# Altium footprint library Footprints.PcbLib: 34 footprints (part 2 of 3)
Each footprint in its own frame and in the unit in brackets; x right, y up, seen from the top. Pads: shape width x height; smd on the part's side, far side on the other; paste and mask are expansions set on the pad; w line width, h text height; cw(c..) or ccw(c..) is an arc to the next point about the centre after c.
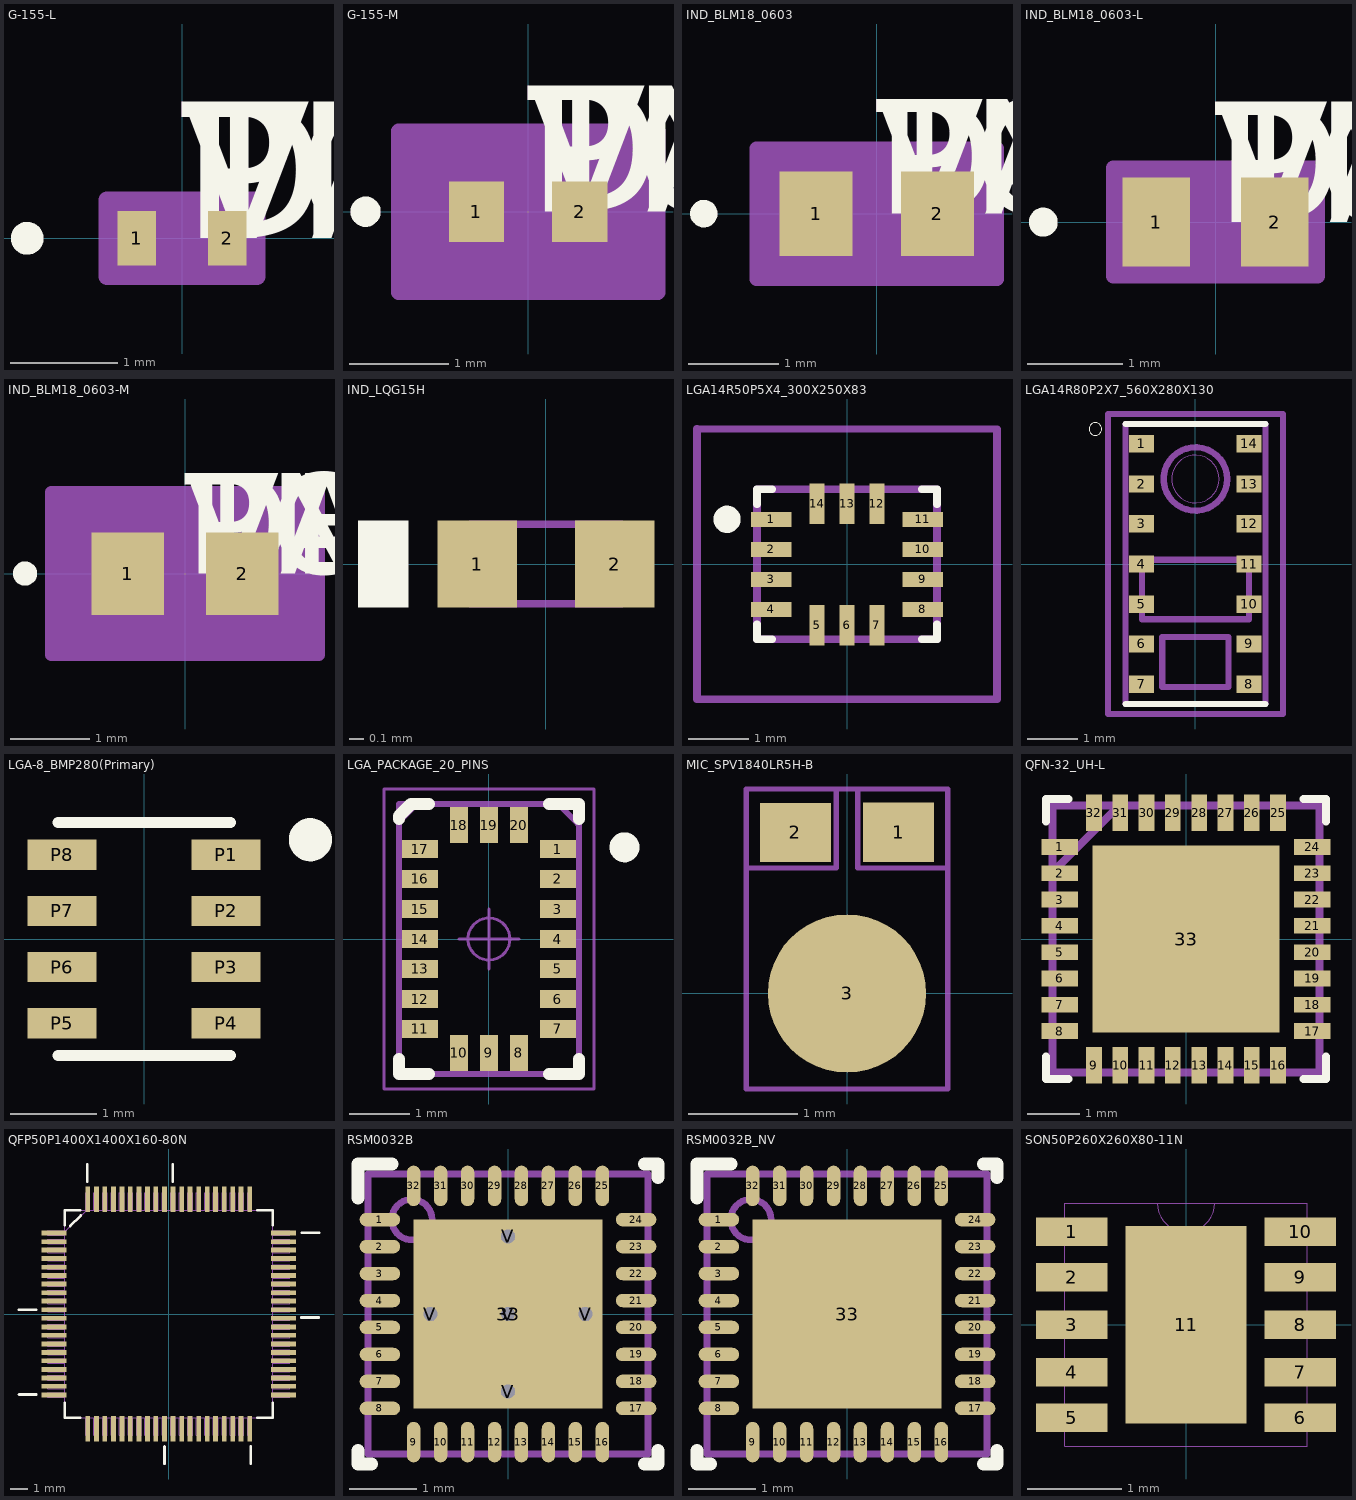
[diagram p1: the footprints below, top view; thin cyan lines are the x and y axes]

## G-155-L [mil]
pads (2):
  rect 14x20 smd: 1(-16.5,0) 2(16.5,0)
Top Overlay:
  circle w6: c-56.5,0 r3
  text "TOL" at 0,0 h50
  text "VAL" at 0,0 h50
  text "DEV" at 0,0 h50
  text "PN" at 0,0 h50
Mechanical 13:
  circle w0: c-11.5,0 r3
  text "RefDes2" at 0,0 h50
Mechanical 15:
  region: 27.5,-14 -27.5,-14 -27.5,14 27.5,14
  lines w6: -27.5,-14 27.5,-14 27.5,14 -27.5,14 -27.5,-14
3D body: height 10, standoff 0, extent 0,0 10,10

## G-155-M [mil]
pads (2):
  rect 22x24 smd: 1(-20.5,0) 2(20.5,0)
Top Overlay:
  circle w6: c-64.5,0 r3
  text "TOL" at 0,0 h50
  text "VAL" at 0,0 h50
  text "DEV" at 0,0 h50
  text "PN" at 0,0 h50
Mechanical 13:
  circle w0: c-15.5,0 r3
  text "RefDes2" at 0,0 h50
Mechanical 15:
  region: 51.5,-32 -51.5,-32 -51.5,32 51.5,32
  lines w6: -51.5,-32 51.5,-32 51.5,32 -51.5,32 -51.5,-32
3D body: height 10, standoff 0, extent 0,0 10,10

## IND_BLM18_0603 [mil]
pads (2):
  rect 32x37 smd: 1(-26.5,0) 2(26.5,0)
Top Overlay:
  circle w6: c-75.5,0 r3
  text "TOL" at 0,0 h50
  text "VAL" at 0,0 h50
  text "DEV" at 0,0 h50
  text "PN" at 0,0 h50
Mechanical 13:
  circle w0: c-21.5,0 r3
  text "RefDes2" at 0,0 h50
Mechanical 15:
  region: 52.5,-28.5 -52.5,-28.5 -52.5,28.5 52.5,28.5
  lines w6: -52.5,-28.5 52.5,-28.5 52.5,28.5 -52.5,28.5 -52.5,-28.5
3D body: height 10, standoff 0, extent 0,0 10,10

## IND_BLM18_0603-L [mil]
pads (2):
  rect 28x37 smd: 1(-24.5,0) 2(24.5,0)
Top Overlay:
  circle w6: c-71.5,0 r3
  text "PN" at 0,0 h50
  text "DEV" at 0,0 h50
  text "VAL" at 0,0 h50
  text "TOL" at 0,0 h50
Mechanical 13:
  circle w0: c-19.5,0 r3
  text "RefDes2" at 0,0 h50
Mechanical 15:
  region: 42.5,-22.5 -42.5,-22.5 -42.5,22.5 42.5,22.5
  lines w6: -42.5,-22.5 -42.5,22.5 42.5,22.5 42.5,-22.5 -42.5,-22.5
3D body: height 10, standoff 0, extent 0,0 10,10

## IND_BLM18_0603-M [mil]
pads (2):
  rect 36x41 smd: 1(-28.5,0) 2(28.5,0)
Top Overlay:
  circle w6: c-79.5,0 r3
  text "PN" at 0,0 h50
  text "DEV" at 0,0 h50
  text "VAL" at 0,0 h50
  text "TOL" at 0,0 h50
Mechanical 13:
  circle w0: c-23.5,0 r3
  text "RefDes2" at 0,0 h50
Mechanical 15:
  region: 66.5,-40.5 -66.5,-40.5 -66.5,40.5 66.5,40.5
  lines w6: -66.5,-40.5 -66.5,40.5 66.5,40.5 66.5,-40.5 -66.5,-40.5
3D body: height 10, standoff 0, extent 0,0 10,10

## IND_LQG15H [mm] "MuRata"
height 0.55
pads (2):
  rect 0.55x0.6 smd: 1(-0.475,0) 2(0.475,0)
Top Overlay:
  rectangle: -1.3,-0.3 -0.95,0.3
Mechanical 5:
  rectangle: -0.7,-0.275 -0.525,0.275
  lines w0.05: -0.525,-0.275 0.525,-0.275 0.525,0.275 -0.525,0.275 -0.525,-0.275
  text ".Designator" at 0.254,0.127 h0.25
3D body: height 0.55, standoff 0, extent -0.524,-0.274 -0.276,0.274
3D body: height 0.54, standoff 0, extent -0.274,-0.274 0.274,0.274
3D body: height 0.55, standoff 0, extent 0.276,-0.274 0.524,0.274
3D body: height 0.55, standoff 0.54, extent -0.274,-0.274 -0.001,0.274

## LGA14R50P5X4_300X250X83 [mm]
pads (14):
  rect 0.675x0.25 smd paste-25.4 mask-25.4: 1(-1.262,0.75) 2(-1.262,0.25) 3(-1.262,-0.25) 4(-1.262,-0.75) 8(1.262,-0.75) 9(1.262,-0.25) 10(1.262,0.25) 11(1.262,0.75)
  rect 0.25x0.675 smd paste-25.4 mask-25.4: 5(-0.5,-1.012) 6(0,-1.012) 7(0.5,-1.012) 12(0.5,1.012) 13(0,1.012) 14(-0.5,1.012)
Top Overlay:
  circle w0.254: c-2,0.75 r0.1
  lines w0.127: -1.5,-1 -1.5,-1.25 -1.25,-1.25 ; -1.5,1 -1.5,1.25 -1.25,1.25 ; 1.25,-1.25 1.5,-1.25 1.5,-1 ; 1.25,1.25 1.5,1.25 1.5,1
Top Paste:
  region: -0.375,0.675 -0.375,1.35 -0.625,1.35 -0.625,0.675
  region: 0.125,0.675 0.125,1.35 -0.125,1.35 -0.125,0.675
  region: 0.625,0.675 0.625,1.35 0.375,1.35 0.375,0.675
  region: 0.925,0.625 1.6,0.625 1.6,0.875 0.925,0.875
  region: 0.925,0.125 1.6,0.125 1.6,0.375 0.925,0.375
  region: 0.925,-0.375 1.6,-0.375 1.6,-0.125 0.925,-0.125
  region: 0.925,-0.875 1.6,-0.875 1.6,-0.625 0.925,-0.625
  region: 0.375,-0.675 0.375,-1.35 0.625,-1.35 0.625,-0.675
  region: -0.125,-0.675 -0.125,-1.35 0.125,-1.35 0.125,-0.675
  region: -0.625,-0.675 -0.625,-1.35 -0.375,-1.35 -0.375,-0.675
  region: -1.6,-0.875 -0.925,-0.875 -0.925,-0.625 -1.6,-0.625
  region: -1.6,-0.375 -0.925,-0.375 -0.925,-0.125 -1.6,-0.125
  region: -1.6,0.125 -0.925,0.125 -0.925,0.375 -1.6,0.375
  region: -1.6,0.625 -0.925,0.625 -0.925,0.875 -1.6,0.875
Top Solder:
  region: -0.275,0.575 -0.275,1.45 -0.725,1.45 -0.725,0.575
  region: 0.225,0.575 0.225,1.45 -0.225,1.45 -0.225,0.575
  region: 0.725,0.575 0.725,1.45 0.275,1.45 0.275,0.575
  region: 0.825,0.525 1.7,0.525 1.7,0.975 0.825,0.975
  region: 0.825,0.025 1.7,0.025 1.7,0.475 0.825,0.475
  region: 0.825,-0.475 1.7,-0.475 1.7,-0.025 0.825,-0.025
  region: 0.825,-0.975 1.7,-0.975 1.7,-0.525 0.825,-0.525
  region: 0.275,-0.575 0.275,-1.45 0.725,-1.45 0.725,-0.575
  region: -0.225,-0.575 -0.225,-1.45 0.225,-1.45 0.225,-0.575
  region: -0.725,-0.575 -0.725,-1.45 -0.275,-1.45 -0.275,-0.575
  region: -1.7,-0.975 -0.825,-0.975 -0.825,-0.525 -1.7,-0.525
  region: -1.7,-0.475 -0.825,-0.475 -0.825,-0.025 -1.7,-0.025
  region: -1.7,0.025 -0.825,0.025 -0.825,0.475 -1.7,0.475
  region: -1.7,0.525 -0.825,0.525 -0.825,0.975 -1.7,0.975
Mechanical 1:
  lines w0.127: -2.5,2.25 -2.5,-2.25 2.5,-2.25 2.5,2.25 -2.5,2.26 ; -1.5,-1.25 -1.5,1.25 1.5,1.25 1.5,-1.25 -1.5,-1.25

## LGA14R80P2X7_560X280X130 [mm]
pads (14):
  rect 0.5x0.35 smd paste-25.4 mask-25.4: 1(-1.075,2.4) 2(-1.075,1.6) 3(-1.075,0.8) 4(-1.075,0) 5(-1.075,-0.8) 6(-1.075,-1.6) 7(-1.075,-2.4) 8(1.075,-2.4) 9(1.075,-1.6) 10(1.075,-0.8) 11(1.075,0) 12(1.075,0.8) 13(1.075,1.6) 14(1.075,2.4)
Top Overlay:
  circle w0: c-2,2.7 r0.127
  lines w0.127: -1.4,-2.8 1.4,-2.8 ; -1.4,2.8 1.4,2.8
Top Paste:
  region: 0.825,2.225 1.325,2.225 1.325,2.575 0.825,2.575
  region: 0.825,1.425 1.325,1.425 1.325,1.775 0.825,1.775
  region: 0.825,0.625 1.325,0.625 1.325,0.975 0.825,0.975
  region: 0.825,-0.175 1.325,-0.175 1.325,0.175 0.825,0.175
  region: 0.825,-0.975 1.325,-0.975 1.325,-0.625 0.825,-0.625
  region: 0.825,-1.775 1.325,-1.775 1.325,-1.425 0.825,-1.425
  region: 0.825,-2.575 1.325,-2.575 1.325,-2.225 0.825,-2.225
  region: -1.325,2.225 -0.825,2.225 -0.825,2.575 -1.325,2.575
  region: -1.325,1.425 -0.825,1.425 -0.825,1.775 -1.325,1.775
  region: -1.325,0.625 -0.825,0.625 -0.825,0.975 -1.325,0.975
  region: -1.325,-0.175 -0.825,-0.175 -0.825,0.175 -1.325,0.175
  region: -1.325,-0.975 -0.825,-0.975 -0.825,-0.625 -1.325,-0.625
  region: -1.325,-1.775 -0.825,-1.775 -0.825,-1.425 -1.325,-1.425
  region: -1.325,-2.575 -0.825,-2.575 -0.825,-2.225 -1.325,-2.225
Top Solder:
  region: 0.725,2.125 1.425,2.125 1.425,2.675 0.725,2.675
  region: 0.725,1.325 1.425,1.325 1.425,1.875 0.725,1.875
  region: 0.725,0.525 1.425,0.525 1.425,1.075 0.725,1.075
  region: 0.725,-0.275 1.425,-0.275 1.425,0.275 0.725,0.275
  region: 0.725,-1.075 1.425,-1.075 1.425,-0.525 0.725,-0.525
  region: 0.725,-1.875 1.425,-1.875 1.425,-1.325 0.725,-1.325
  region: 0.725,-2.675 1.425,-2.675 1.425,-2.125 0.725,-2.125
  region: -1.425,2.125 -0.725,2.125 -0.725,2.675 -1.425,2.675
  region: -1.425,1.325 -0.725,1.325 -0.725,1.875 -1.425,1.875
  region: -1.425,0.525 -0.725,0.525 -0.725,1.075 -1.425,1.075
  region: -1.425,-0.275 -0.725,-0.275 -0.725,0.275 -1.425,0.275
  region: -1.425,-1.075 -0.725,-1.075 -0.725,-0.525 -1.425,-0.525
  region: -1.425,-1.875 -0.725,-1.875 -0.725,-1.325 -1.425,-1.325
  region: -1.425,-2.675 -0.725,-2.675 -0.725,-2.125 -1.425,-2.125
Mechanical 1:
  circle w0: c0,1.7 r0.475
  circle w0.127: c0,1.7 r0.635
  lines w0.127: -1.4,-2.8 -1.4,2.8 ; 1.4,-2.8 1.4,2.8 ; -1.75,-3 1.75,-3 1.75,3 -1.75,3 -1.75,-3 ; -1.07,-1.105 1.07,-1.105 1.07,0.085 -1.07,0.085 -1.07,-1.105 ; -0.66,-2.46 0.66,-2.46 0.66,-1.46 -0.66,-1.46 -0.66,-2.46

## LGA-8_BMP280(Primary) [mm]
pads (8):
  rect 0.8x0.35 smd paste-25.4 mask-25.4: P1(0.95,0.975) P2(0.95,0.325) P3(0.95,-0.325) P4(0.95,-0.975) P5(-0.95,-0.975) P6(-0.95,-0.325) P7(-0.95,0.325) P8(-0.95,0.975)
Top Overlay:
  circle w0.3: c1.925,1.15 r0.1
  lines w0.127: -1,-1.35 1,-1.35 ; -1,1.35 1,1.35
Top Paste:
  region: -1.35,-1.15 -0.55,-1.15 -0.55,-0.8 -1.35,-0.8
  region: 0.55,-1.15 1.35,-1.15 1.35,-0.8 0.55,-0.8
  region: 0.55,0.8 1.35,0.8 1.35,1.15 0.55,1.15
  region: -1.35,0.8 -0.55,0.8 -0.55,1.15 -1.35,1.15
  region: -1.35,-0.5 -0.55,-0.5 -0.55,-0.15 -1.35,-0.15
  region: 0.55,-0.5 1.35,-0.5 1.35,-0.15 0.55,-0.15
  region: -1.35,0.15 -0.55,0.15 -0.55,0.5 -1.35,0.5
  region: 0.55,0.15 1.35,0.15 1.35,0.5 0.55,0.5
Top Solder:
  region: -1.45,-1.25 -0.45,-1.25 -0.45,-0.7 -1.45,-0.7
  region: 0.45,-1.25 1.45,-1.25 1.45,-0.7 0.45,-0.7
  region: 0.45,0.7 1.45,0.7 1.45,1.25 0.45,1.25
  region: -1.45,0.7 -0.45,0.7 -0.45,1.25 -1.45,1.25
  region: -1.45,-0.6 -0.45,-0.6 -0.45,-0.05 -1.45,-0.05
  region: 0.45,-0.6 1.45,-0.6 1.45,-0.05 0.45,-0.05
  region: -1.45,0.05 -0.45,0.05 -0.45,0.6 -1.45,0.6
  region: 0.45,0.05 1.45,0.05 1.45,0.6 0.45,0.6

## LGA_PACKAGE_20_PINS [mm]
pads (20):
  rect 0.6x0.3 smd: 1(1.15,1.5) 2(1.15,1) 3(1.15,0.5) 4(1.15,0) 5(1.15,-0.5) 6(1.15,-1) 7(1.15,-1.5) 11(-1.15,-1.5) 12(-1.15,-1) 13(-1.15,-0.5) 14(-1.15,0) 15(-1.15,0.5) 16(-1.15,1) 17(-1.15,1.5)
  rect 0.3x0.6 smd: 8(0.5,-1.9) 9(0,-1.9) 10(-0.5,-1.9) 18(-0.5,1.9) 19(0,1.9) 20(0.5,1.9)
Top Overlay:
  circle w0.25: c2.26,1.529 r0.125
  lines w0.2: -1.5,-2 -1.5,-2.25 -1,-2.25 ; -1.5,2 -1.5,2.05 -1.3,2.25 -1,2.25 ; 1,-2.25 1.5,-2.25 1.5,-2 ; 1,2.25 1.5,2.25 1.5,2
Mechanical 15:
  lines w0.1: -1.5,1.95 -1.2,2.25 ; -1.5,2.15 -1.4,2.25 ; 1.179,2.224 1.479,1.924 ; -1.5,-2.25 -1.5,2.25 1.5,2.25 1.5,-2.25 -1.5,-2.25
Mechanical 20:
  circle w0.05: c0,0 r0.35
  lines w0.05: -0.5,0 0.5,0 ; 0,-0.5 0,0.5 ; -1.75,-2.5 -1.75,2.5 1.75,2.5 1.75,-2.5 -1.75,-2.5
Mechanical 21:
  lines w0.001: -1.5,-2.25 -1.5,2.25 1.5,2.25 1.5,-2.25 -1.5,-2.25

## MIC_SPV1840LR5H-B [mm]
pads (3):
  rect 0.65x0.545 smd paste-25.4 mask-25.4: 1(0.473,1.477) 2(-0.474,1.476)
  round 1.45 smd paste-25.4: 3(0,0)
Top Paste:
  region: 0.148,1.205 0.798,1.205 0.798,1.75 0.148,1.75
  region: -0.799,1.203 -0.149,1.203 -0.149,1.748 -0.799,1.748
  region: 0,0.731 -0.189,0.706 -0.366,0.633 -0.517,0.517 -0.633,0.365 -0.706,0.189 -0.731,0 -0.706,-0.19 -0.633,-0.366 -0.517,-0.517 -0.366,-0.634 -0.189,-0.707 0,-0.731 0.189,-0.707 0.366,-0.634 0.517,-0.517 0.633,-0.366 0.706,-0.19 0.731,0 0.706,0.189 0.633,0.365 0.517,0.517 0.366,0.633 0.189,0.706
  region: 0,0.731 -0.189,0.706 -0.366,0.633 -0.517,0.517 -0.633,0.365 -0.706,0.189 -0.731,0 -0.706,-0.19 -0.633,-0.366 -0.517,-0.517 -0.366,-0.634 -0.189,-0.707 0,-0.731 0.189,-0.707 0.366,-0.634 0.517,-0.517 0.633,-0.366 0.706,-0.19 0.731,0 0.706,0.189 0.633,0.365 0.517,0.517 0.366,0.633 0.189,0.706
Top Solder:
  region: 0.048,1.105 0.898,1.105 0.898,1.85 0.048,1.85
  region: -0.899,1.103 -0.049,1.103 -0.049,1.848 -0.899,1.848
Mechanical 1:
  circle w0: c0,0 r0.125
  circle w0.05: c0,0 r0.475
  circle w0: c0.6,1.6 r0.1
  lines w0.05: -0.9,1.15 -0.1,1.15 -0.1,1.85 ; 0.1,1.85 0.1,1.15 0.9,1.15 ; -0.925,-0.876 0.925,-0.876 0.925,1.874 -0.925,1.874 -0.925,-0.876

## QFN-32_UH-L [mm]
pads (33):
  rect 0.703x0.3 smd paste-25.4 mask-25.4: 1(-2.402,1.75) 2(-2.402,1.25) 3(-2.402,0.75) 4(-2.402,0.25) 5(-2.402,-0.25) 6(-2.402,-0.75) 7(-2.402,-1.25) 8(-2.402,-1.75) 17(2.402,-1.75) 18(2.402,-1.25) 19(2.402,-0.75) 20(2.402,-0.25) 21(2.402,0.25) 22(2.402,0.75) 23(2.402,1.25) 24(2.402,1.75)
  rect 0.3x0.703 smd paste-25.4 mask-25.4: 9(-1.75,-2.402) 10(-1.25,-2.402) 11(-0.75,-2.402) 12(-0.25,-2.402) 13(0.25,-2.402) 14(0.75,-2.402) 15(1.25,-2.402) 16(1.75,-2.402) 25(1.75,2.402) 26(1.25,2.402) 27(0.75,2.402) 28(0.25,2.402) 29(-0.25,2.402) 30(-0.75,2.402) 31(-1.25,2.402) 32(-1.75,2.402)
  rect 3.55x3.55 smd mask-25.4: 33(0,0)
Top Overlay:
  lines w0.152: -2.667,-2.235 -2.667,-2.667 -2.235,-2.667 ; -2.667,2.235 -2.667,2.667 -2.235,2.667 ; 2.235,-2.667 2.667,-2.667 2.667,-2.235 ; 2.235,2.667 2.667,2.667 2.667,2.235
Top Paste:
  region: -2.753,1.9 -2.753,1.6 -2.05,1.6 -2.05,1.9
  region: -2.753,1.4 -2.753,1.1 -2.05,1.1 -2.05,1.4
  region: -2.753,0.9 -2.753,0.6 -2.05,0.6 -2.05,0.9
  region: -2.753,0.4 -2.753,0.1 -2.05,0.1 -2.05,0.4
  region: -2.753,-0.1 -2.753,-0.4 -2.05,-0.4 -2.05,-0.1
  region: -2.753,-0.6 -2.753,-0.9 -2.05,-0.9 -2.05,-0.6
  region: -2.753,-1.1 -2.753,-1.4 -2.05,-1.4 -2.05,-1.1
  region: -2.753,-1.6 -2.753,-1.9 -2.05,-1.9 -2.05,-1.6
  region: -1.6,-2.05 -1.9,-2.05 -1.9,-2.753 -1.6,-2.753
  region: -1.1,-2.05 -1.4,-2.05 -1.4,-2.753 -1.1,-2.753
  region: -0.6,-2.05 -0.9,-2.05 -0.9,-2.753 -0.6,-2.753
  region: -0.1,-2.05 -0.4,-2.05 -0.4,-2.753 -0.1,-2.753
  region: 0.4,-2.05 0.1,-2.05 0.1,-2.753 0.4,-2.753
  region: 0.9,-2.05 0.6,-2.05 0.6,-2.753 0.9,-2.753
  region: 1.4,-2.05 1.1,-2.05 1.1,-2.753 1.4,-2.753
  region: 1.9,-2.05 1.6,-2.05 1.6,-2.753 1.9,-2.753
  region: 2.05,-1.6 2.05,-1.9 2.753,-1.9 2.753,-1.6
  region: 2.05,-1.1 2.05,-1.4 2.753,-1.4 2.753,-1.1
  region: 2.05,-0.6 2.05,-0.9 2.753,-0.9 2.753,-0.6
  region: 2.05,-0.1 2.05,-0.4 2.753,-0.4 2.753,-0.1
  region: 2.05,0.4 2.05,0.1 2.753,0.1 2.753,0.4
  region: 2.05,0.9 2.05,0.6 2.753,0.6 2.753,0.9
  region: 2.05,1.4 2.05,1.1 2.753,1.1 2.753,1.4
  region: 2.05,1.9 2.05,1.6 2.753,1.6 2.753,1.9
  region: 1.9,2.753 1.6,2.753 1.6,2.05 1.9,2.05
  region: 1.4,2.753 1.1,2.753 1.1,2.05 1.4,2.05
  region: 0.9,2.753 0.6,2.753 0.6,2.05 0.9,2.05
  region: 0.4,2.753 0.1,2.753 0.1,2.05 0.4,2.05
  region: -0.1,2.753 -0.4,2.753 -0.4,2.05 -0.1,2.05
  region: -0.6,2.753 -0.9,2.753 -0.9,2.05 -0.6,2.05
  region: -1.1,2.753 -1.4,2.753 -1.4,2.05 -1.1,2.05
  region: -1.6,2.753 -1.9,2.753 -1.9,2.05 -1.6,2.05
Top Solder:
  region: -2.853,2 -2.853,1.5 -1.95,1.5 -1.95,2
  region: -2.853,1.5 -2.853,1 -1.95,1 -1.95,1.5
  region: -2.853,1 -2.853,0.5 -1.95,0.5 -1.95,1
  region: -2.853,0.5 -2.853,0 -1.95,0 -1.95,0.5
  region: -2.853,0 -2.853,-0.5 -1.95,-0.5 -1.95,0
  region: -2.853,-0.5 -2.853,-1 -1.95,-1 -1.95,-0.5
  region: -2.853,-1 -2.853,-1.5 -1.95,-1.5 -1.95,-1
  region: -2.853,-1.5 -2.853,-2 -1.95,-2 -1.95,-1.5
  region: -1.5,-1.95 -2,-1.95 -2,-2.853 -1.5,-2.853
  region: -1,-1.95 -1.5,-1.95 -1.5,-2.853 -1,-2.853
  region: -0.5,-1.95 -1,-1.95 -1,-2.853 -0.5,-2.853
  region: 0,-1.95 -0.5,-1.95 -0.5,-2.853 0,-2.853
  region: 0.5,-1.95 0,-1.95 0,-2.853 0.5,-2.853
  region: 1,-1.95 0.5,-1.95 0.5,-2.853 1,-2.853
  region: 1.5,-1.95 1,-1.95 1,-2.853 1.5,-2.853
  region: 2,-1.95 1.5,-1.95 1.5,-2.853 2,-2.853
  region: 1.95,-1.5 1.95,-2 2.853,-2 2.853,-1.5
  region: 1.95,-1 1.95,-1.5 2.853,-1.5 2.853,-1
  region: 1.95,-0.5 1.95,-1 2.853,-1 2.853,-0.5
  region: 1.95,0 1.95,-0.5 2.853,-0.5 2.853,0
  region: 1.95,0.5 1.95,0 2.853,0 2.853,0.5
  region: 1.95,1 1.95,0.5 2.853,0.5 2.853,1
  region: 1.95,1.5 1.95,1 2.853,1 2.853,1.5
  region: 1.95,2 1.95,1.5 2.853,1.5 2.853,2
  region: 2,2.853 1.5,2.853 1.5,1.95 2,1.95
  region: 1.5,2.853 1,2.853 1,1.95 1.5,1.95
  region: 1,2.853 0.5,2.853 0.5,1.95 1,1.95
  region: 0.5,2.853 0,2.853 0,1.95 0.5,1.95
  region: 0,2.853 -0.5,2.853 -0.5,1.95 0,1.95
  region: -0.5,2.853 -1,2.853 -1,1.95 -0.5,1.95
  region: -1,2.853 -1.5,2.853 -1.5,1.95 -1,1.95
  region: -1.5,2.853 -2,2.853 -2,1.95 -1.5,1.95
  region: -1.875,-1.875 1.875,-1.875 1.875,1.875 -1.875,1.875
Mechanical 1:
  lines w0.152: -2.54,-1.905 -2.54,-1.6 ; -2.54,-1.397 -2.54,-1.092 ; -2.54,-0.889 -2.54,-0.61 ; -2.54,-0.406 -2.54,-0.102 ; -2.54,0.102 -2.54,0.406 ; -2.54,0.61 -2.54,0.889 ; -2.54,1.092 -2.54,1.397 ; -2.54,1.27 -1.27,2.54 ; -2.54,1.6 -2.54,1.905 ; -1.905,-2.54 -1.6,-2.54 ; -1.905,2.54 -1.6,2.54 ; -1.397,-2.54 -1.092,-2.54 ; -1.397,2.54 -1.092,2.54 ; -0.889,-2.54 -0.61,-2.54 ; -0.889,2.54 -0.61,2.54 ; -0.406,-2.54 -0.102,-2.54 ; -0.406,2.54 -0.102,2.54 ; 0.102,-2.54 0.406,-2.54 ; 0.102,2.54 0.406,2.54 ; 0.61,-2.54 0.889,-2.54 ; 0.61,2.54 0.889,2.54 ; 1.092,-2.54 1.397,-2.54 ; 1.092,2.54 1.397,2.54 ; 1.6,-2.54 1.905,-2.54 ; 1.6,2.54 1.905,2.54 ; 2.54,-1.905 2.54,-1.6 ; 2.54,-1.397 2.54,-1.092 ; 2.54,-0.889 2.54,-0.61 ; 2.54,-0.406 2.54,-0.102 ; 2.54,0.102 2.54,0.406 ; 2.54,0.61 2.54,0.889 ; 2.54,1.092 2.54,1.397 ; 2.54,1.6 2.54,1.905 ; -2.54,-2.54 2.54,-2.54 2.54,2.54 -2.54,2.54 -2.54,-2.54

## QFP50P1400X1400X160-80N [mil]
pads (80):
  rect 58x11 smd paste-1000 mask-1000: 1(-265,187) 2(-265,167) 3(-265,148) 4(-265,128) 5(-265,108) 6(-265,89) 7(-265,69) 8(-265,49) 9(-265,30) 10(-265,10) 11(-265,-10) 12(-265,-30) 13(-265,-49) 14(-265,-69) 15(-265,-89) 16(-265,-108) 17(-265,-128) 18(-265,-148) 19(-265,-167) 20(-265,-187) 41(265,-187) 42(265,-167) 43(265,-148) 44(265,-128) 45(265,-108) 46(265,-89) 47(265,-69) 48(265,-49) 49(265,-30) 50(265,-10) 51(265,10) 52(265,30) 53(265,49) 54(265,69) 55(265,89) 56(265,108) 57(265,128) 58(265,148) 59(265,167) 60(265,187)
  rect 11x58 smd paste-1000 mask-1000: 21(-187,-265) 22(-167,-265) 23(-148,-265) 24(-128,-265) 25(-108,-265) 26(-89,-265) 27(-69,-265) 28(-49,-265) 29(-30,-265) 30(-10,-265) 31(10,-265) 32(30,-265) 33(49,-265) 34(69,-265) 35(89,-265) 36(108,-265) 37(128,-265) 38(148,-265) 39(167,-265) 40(187,-265) 61(187,265) 62(167,265) 63(148,265) 64(128,265) 65(108,265) 66(89,265) 67(69,265) 68(49,265) 69(30,265) 70(10,265) 71(-10,265) 72(-30,265) 73(-49,265) 74(-69,265) 75(-89,265) 76(-108,265) 77(-128,265) 78(-148,265) 79(-167,265) 80(-187,265)
Top Overlay:
  lines w6: -346,-186 -306,-186 ; -346,10 -306,10 ; -240,-205 -240,-240 -205,-240 ; -240,205 -240,240 -205,240 ; -228,203 -203,228 ; -188,306 -188,346 ; -10,-346 -10,-306 ; 9,306 9,346 ; 189,-346 189,-306 ; 205,-240 240,-240 240,-205 ; 205,240 240,240 240,205 ; 306,-8 346,-8 ; 307,188 347,188
Top Paste:
  drawing of 80 lines, arcs and shapes, not listed
Top Solder:
  drawing of 80 lines, arcs and shapes, not listed
Mechanical 1:
  drawing of 327 lines, arcs and shapes, not listed

## RSM0032B [mm]
pads (38):
  oval 0.6x0.2 smd paste+0 mask+0.051: 1(-1.9,1.4) 2(-1.9,1) 3(-1.9,0.6) 4(-1.9,0.2) 5(-1.9,-0.2) 6(-1.9,-0.6) 7(-1.9,-1) 8(-1.9,-1.4) 17(1.9,-1.4) 18(1.9,-1) 19(1.9,-0.6) 20(1.9,-0.2) 21(1.9,0.2) 22(1.9,0.6) 23(1.9,1) 24(1.9,1.4)
  oval 0.2x0.6 smd paste+0 mask+0.051: 9(-1.4,-1.9) 10(-1,-1.9) 11(-0.6,-1.9) 12(-0.2,-1.9) 13(0.2,-1.9) 14(0.6,-1.9) 15(1,-1.9) 16(1.4,-1.9) 25(1.4,1.9) 26(1,1.9) 27(0.6,1.9) 28(0.2,1.9) 29(-0.2,1.9) 30(-0.6,1.9) 31(-1,1.9) 32(-1.4,1.9)
  rect 2.8x2.8 smd paste-1.387 mask+0.051: 33(0,0)
  round 0.5 / inner round 1.524 / far side round 0.5 hole 0.203 mask+0.051: V(-1.15,0) V(0,-1.15) V(0,0) V(0,1.15) V(1.15,0)
Top Overlay:
  lines w0.2: -2.225,-2.025 -2.225,-2.225 -2.025,-2.225 ; -2.225,1.725 -2.225,2.225 -1.725,2.225 ; 2.025,-2.225 2.225,-2.225 2.225,-2.025 ; 2.025,2.225 2.225,2.225 2.225,2.025
Top Paste:
  region: -1.329,0.1 -0.1,0.1 -0.1,1.329 -1.329,1.329
  region: 0.1,0.1 1.329,0.1 1.329,1.329 0.1,1.329
  region: -1.329,-1.329 -0.1,-1.329 -0.1,-0.1 -1.329,-0.1
  region: 0.1,-1.329 1.329,-1.329 1.329,-0.1 0.1,-0.1
Mechanical 13:
  circle w0.1: c-1.425,1.4 r0.3
  lines w0.1: -2.075,-2.075 -2.075,2.075 2.075,2.075 2.075,-2.075 -2.075,-2.075
  text ".Designator" at -1.854,-0.508 h1.27
3D body: height 0.25, standoff 0, extent 0,0 0.254,0.254

## RSM0032B_NV [mm]
pads (33):
  oval 0.6x0.2 smd paste+0 mask+0.051: 1(-1.9,1.4) 2(-1.9,1) 3(-1.9,0.6) 4(-1.9,0.2) 5(-1.9,-0.2) 6(-1.9,-0.6) 7(-1.9,-1) 8(-1.9,-1.4) 17(1.9,-1.4) 18(1.9,-1) 19(1.9,-0.6) 20(1.9,-0.2) 21(1.9,0.2) 22(1.9,0.6) 23(1.9,1) 24(1.9,1.4)
  oval 0.2x0.6 smd paste+0 mask+0.051: 9(-1.4,-1.9) 10(-1,-1.9) 11(-0.6,-1.9) 12(-0.2,-1.9) 13(0.2,-1.9) 14(0.6,-1.9) 15(1,-1.9) 16(1.4,-1.9) 25(1.4,1.9) 26(1,1.9) 27(0.6,1.9) 28(0.2,1.9) 29(-0.2,1.9) 30(-0.6,1.9) 31(-1,1.9) 32(-1.4,1.9)
  rect 2.8x2.8 smd paste-1.387 mask+0.051: 33(0,0)
Top Overlay:
  lines w0.2: -2.225,-2.025 -2.225,-2.225 -2.025,-2.225 ; -2.225,1.725 -2.225,2.225 -1.725,2.225 ; 2.025,-2.225 2.225,-2.225 2.225,-2.025 ; 2.025,2.225 2.225,2.225 2.225,2.025
Top Paste:
  region: 0.1,-1.329 1.329,-1.329 1.329,-0.1 0.1,-0.1
  region: -1.329,-1.329 -0.1,-1.329 -0.1,-0.1 -1.329,-0.1
  region: 0.1,0.1 1.329,0.1 1.329,1.329 0.1,1.329
  region: -1.329,0.1 -0.1,0.1 -0.1,1.329 -1.329,1.329
Mechanical 13:
  circle w0.1: c-1.425,1.4 r0.3
  lines w0.1: -2.075,-2.075 -2.075,2.075 2.075,2.075 2.075,-2.075 -2.075,-2.075
  text ".Designator" at -1.854,-0.508 h1.27
3D body: height 0.25, standoff 0, extent 0,0 0.254,0.254

## SON50P260X260X80-11N [mil]
pads (11):
  rect 30x12 smd paste-1000 mask-1000: 1(-48,39) 2(-48,20) 3(-48,0) 4(-48,-20) 5(-48,-39) 6(48,-39) 7(48,-20) 8(48,0) 9(48,20) 10(48,39)
  rect 51x83 smd paste-1000 mask-1000: 11(0,0)
Top Paste:
  region: -63,33 -33,33 -33,45 -63,45
  region: -63,14 -33,14 -33,26 -63,26
  region: -63,-6 -33,-6 -33,6 -63,6
  region: -63,-26 -33,-26 -33,-14 -63,-14
  region: -63,-45 -33,-45 -33,-33 -63,-33
  region: 33,-45 63,-45 63,-33 33,-33
  region: 33,-26 63,-26 63,-14 33,-14
  region: 33,-6 63,-6 63,6 33,6
  region: 33,14 63,14 63,26 33,26
  region: 33,33 63,33 63,45 33,45
  region: -25.5,-41.5 25.5,-41.5 25.5,41.5 -25.5,41.5
Top Solder:
  region: -63,33 -33,33 -33,45 -63,45
  region: -63,14 -33,14 -33,26 -63,26
  region: -63,-6 -33,-6 -33,6 -63,6
  region: -63,-26 -33,-26 -33,-14 -63,-14
  region: -63,-45 -33,-45 -33,-33 -63,-33
  region: 33,-45 63,-45 63,-33 33,-33
  region: 33,-26 63,-26 63,-14 33,-14
  region: 33,-6 63,-6 63,6 33,6
  region: 33,14 63,14 63,26 33,26
  region: 33,33 63,33 63,45 33,45
  region: -25.5,-41.5 25.5,-41.5 25.5,41.5 -25.5,41.5
Mechanical 1:
  lines w0: -12,51 ccw(c0,51) 12,51 ; -12,51 12,51 ; -12,51 -51,51 -51,-51 51,-51 51,51 12,51